# Altium footprint library RLC Footprints.PcbLib: 68 footprints (part 3 of 5)
Each footprint in its own frame and in the unit in brackets; x right, y up, seen from the top. Pads: shape width x height; smd on the part's side, far side on the other; paste and mask are expansions set on the pad; w line width, h text height; cw(c..) or ccw(c..) is an arc to the next point about the centre after c.
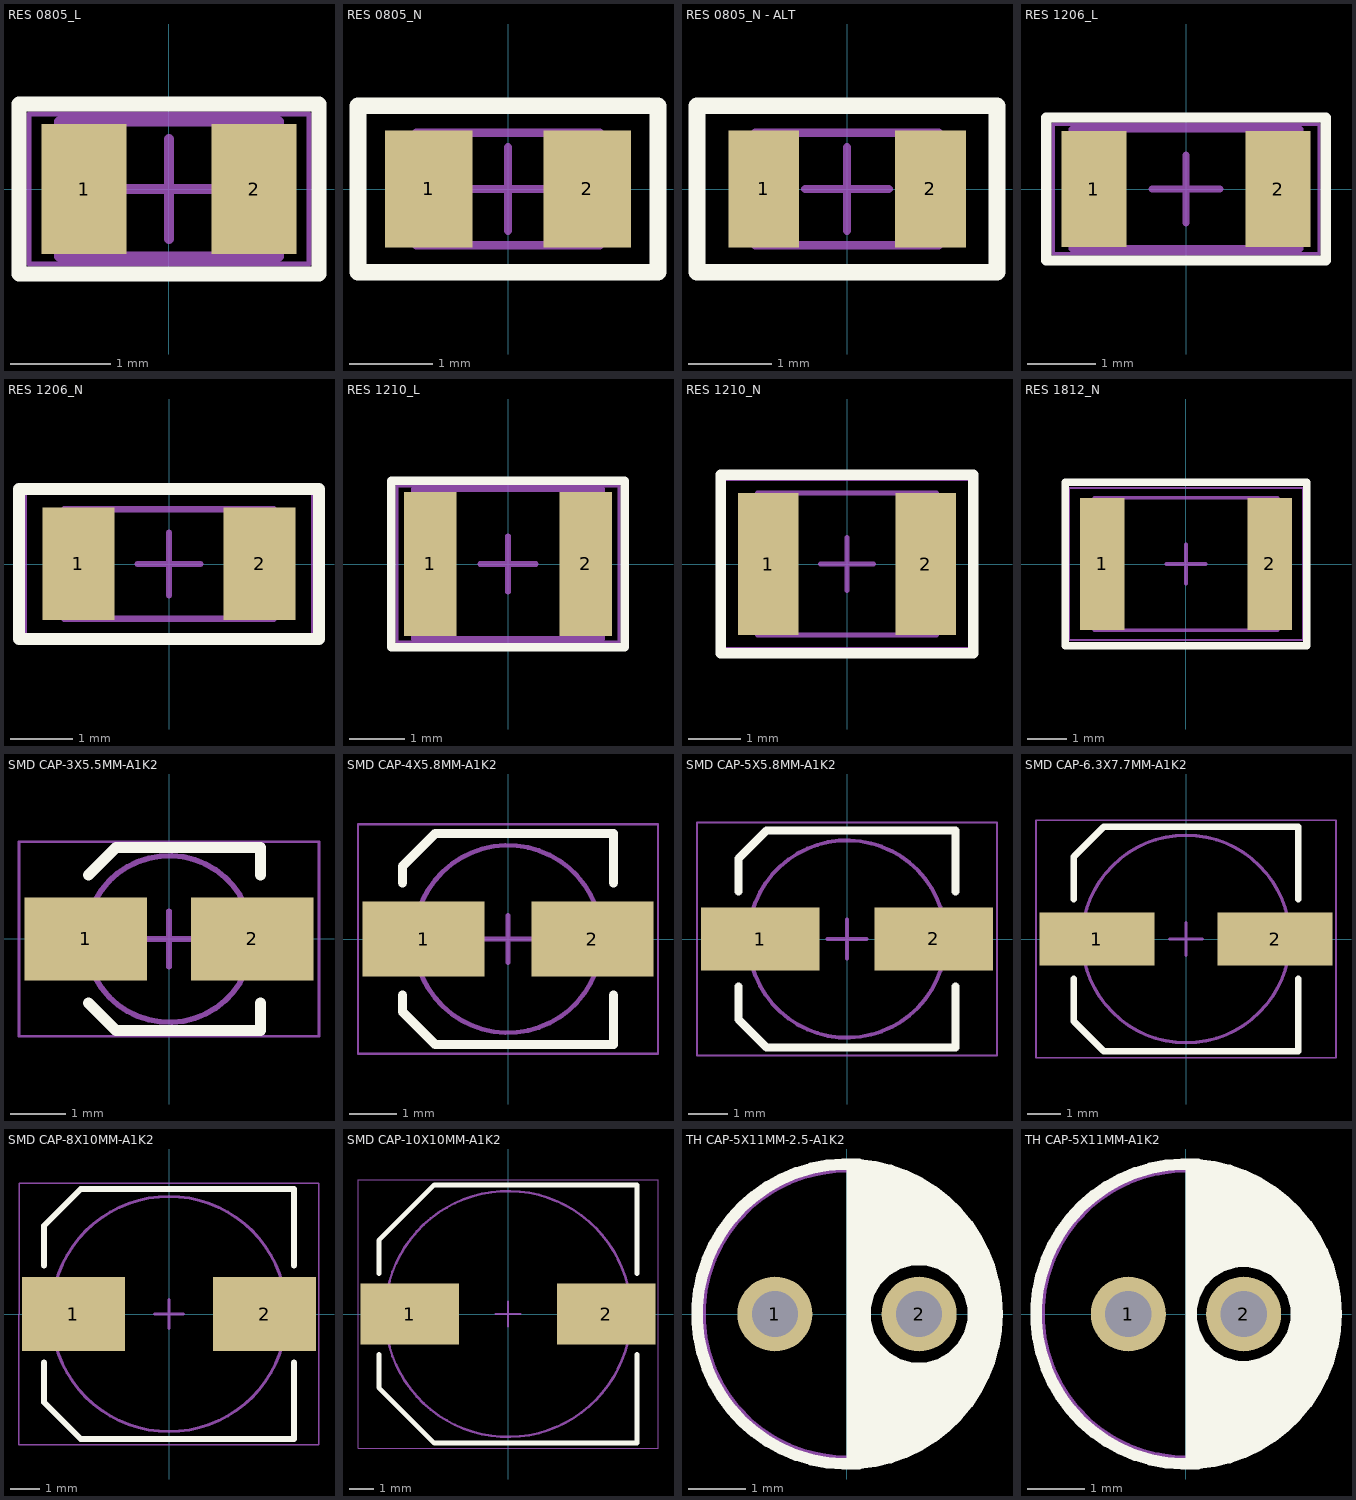
[diagram p2: the footprints below, top view; thin cyan lines are the x and y axes]

## RES 0805_L [mm] "Chip Resistor, Body 2.0x1.3mm, IPC High Density"
height 0.7
pads (2):
  rect 0.85x1.3 smd: 1(-0.85,0) 2(0.85,0)
Top Overlay:
  lines w0.15: -1.5,-0.85 -1.5,0.85 1.1,0.85 1.5,0.85 1.5,-0.85 1.1,-0.85 -1.5,-0.85
Mechanical 13:
  lines w0.1: -1.1,-0.675 1.1,-0.675 1.1,0.675 -1.1,0.675 -1.1,-0.675
Mechanical 15:
  lines w0.05: -1.4,-0.75 1.4,-0.75 1.4,0.75 -1.4,0.75 -1.4,-0.75
  lines w0.1: -0.5,0 0.5,0 ; 0,-0.5 0,0.5
3D body "SMD RESISTOR-0805.step": height 0.62, standoff 0.02, extent -1,-0.625 1,0.625

## RES 0805_N [mm] "Chip Resistor, Body 2.0x1.3mm, IPC Medium Density"
height 0.7
pads (2):
  rect 1.05x1.4 smd: 1(-0.95,0) 2(0.95,0)
Top Overlay:
  lines w0.2: -1.8,-1 -1.8,1 1.1,1 1.8,1 1.8,-1 1.1,-1 -1.8,-1
Mechanical 13:
  lines w0.1: -1.1,-0.675 1.1,-0.675 1.1,0.675 -1.1,0.675 -1.1,-0.675
Mechanical 15:
  lines w0.05: -1.75,-0.95 1.75,-0.95 1.75,0.95 -1.75,0.95 -1.75,-0.95
  lines w0.1: -0.5,0 0.5,0 ; 0,-0.5 0,0.5
3D body "SMD RESISTOR-0805.step": height 0.62, standoff 0.02, extent -1,-0.625 1,0.625

## RES 0805_N - ALT [mm] "Narrower Pad Width, Chip Resistor, Body 2.0x1.3mm, IPC Medium Density"
height 0.7
pads (2):
  rect 0.85x1.4 smd: 1(-1,0) 2(1,0)
Top Overlay:
  lines w0.2: -1.8,-1 -1.8,1 1.1,1 1.8,1 1.8,-1 1.1,-1 -1.8,-1
Mechanical 13:
  lines w0.1: -1.1,-0.675 1.1,-0.675 1.1,0.675 -1.1,0.675 -1.1,-0.675
Mechanical 15:
  lines w0.05: -1.75,-0.95 1.75,-0.95 1.75,0.95 -1.75,0.95 -1.75,-0.95
  lines w0.1: -0.5,0 0.5,0 ; 0,-0.5 0,0.5
3D body "SMD RESISTOR-0805.step": height 0.62, standoff 0.02, extent -1,-0.625 1,0.625

## RES 1206_L [mm] "Chip Resistor, Body 3.2x1.6mm, IPC High Density"
height 0.75
pads (2):
  rect 0.95x1.7 smd: 1(-1.35,0) 2(1.35,0)
Top Overlay:
  lines w0.15: -2.05,-1.05 -2.05,1.05 1.6,1.05 2.05,1.05 2.05,-1.05 1.6,-1.05 -2.05,-1.05
Mechanical 13:
  lines w0.1: -1.675,-0.875 1.675,-0.875 1.675,0.875 -1.675,0.875 -1.675,-0.875
Mechanical 15:
  lines w0.05: -1.95,-0.95 1.95,-0.95 1.95,0.95 -1.95,0.95 -1.95,-0.95
  lines w0.1: -0.5,0 0.5,0 ; 0,-0.5 0,0.5
3D body "SMD RESISTOR-1206.step": height 0.6, standoff 0, extent -1.6,-0.8 1.6,0.8

## RES 1206_N [mm] "Chip Resistor, Body 3.2x1.6mm, IPC Medium Density"
height 0.75
pads (2):
  rect 1.15x1.8 smd: 1(-1.45,0) 2(1.45,0)
Top Overlay:
  lines w0.2: -2.4,-1.2 1.6,-1.2 2.4,-1.2 2.4,1.2 1.6,1.2 -2.4,1.2 -2.4,-1.2
Mechanical 13:
  lines w0.1: -1.675,-0.875 -1.675,0.875 1.675,0.875 1.675,-0.875 -1.675,-0.875
Mechanical 15:
  lines w0.05: -2.3,-1.15 -2.3,1.15 2.3,1.15 2.3,-1.15 -2.3,-1.15
  lines w0.1: -0.5,0 0.5,0 ; 0,-0.5 0,0.5
3D body "SMD RESISTOR-1206.step": height 0.6, standoff 0, extent -1.6,-0.8 1.6,0.8

## RES 1210_L [mm] "Chip Resistor, Body 3.2x2.5mm, IPC High Density"
height 0.71
pads (2):
  rect 0.95x2.6 smd: 1(-1.4,0) 2(1.4,0)
Top Overlay:
  lines w0.15: -2.1,-1.5 1.6,-1.5 2.1,-1.5 2.1,1.5 1.6,1.5 -2.1,1.5 -2.1,-1.5
Mechanical 13:
  lines w0.1: -1.7,-1.35 -1.7,1.35 1.7,1.35 1.7,-1.35 -1.7,-1.35
Mechanical 15:
  lines w0.05: -2,-1.4 -2,1.4 2,1.4 2,-1.4 -2,-1.4
  lines w0.1: -0.5,0 0.5,0 ; 0,-0.5 0,0.5
3D body "SMD RESISTOR-1210.step": height 0.6, standoff 0, extent -1.6,-1.25 1.6,1.25

## RES 1210_N [mm] "Chip Resistor, Body 3.2x2.5mm, IPC Medium Density"
height 0.71
pads (2):
  rect 1.15x2.7 smd: 1(-1.5,0) 2(1.5,0)
Top Overlay:
  lines w0.2: -2.4,-1.7 -2.4,1.7 1.6,1.7 2.4,1.7 2.4,-1.7 1.6,-1.7 -2.4,-1.7
Mechanical 13:
  lines w0.1: -1.7,-1.35 -1.7,1.35 1.7,1.35 1.7,-1.35 -1.7,-1.35
Mechanical 15:
  lines w0.05: -2.35,-1.6 -2.35,1.6 2.35,1.6 2.35,-1.6 -2.35,-1.6
  lines w0.1: -0.5,0 0.5,0 ; 0,-0.5 0,0.5
3D body "SMD RESISTOR-1210.step": height 0.6, standoff 0, extent -1.6,-1.25 1.6,1.25

## RES 1812_N [mm] "Chip Resistor, Body 4.5x3.2mm, IPC Medium Density"
height 0.71
pads (2):
  rect 1.15x3.4 smd: 1(-2.15,0) 2(2.15,0)
Top Overlay:
  lines w0.2: -3.1,-2.1 -3.1,2.1 2,2.1 3.1,2.1 3.1,-2.1 2.1,-2.1 -3.1,-2.1
Mechanical 13:
  lines w0.1: -2.35,-1.7 -2.35,1.7 2.35,1.7 2.35,-1.7 -2.35,-1.7
Mechanical 15:
  lines w0.05: -3,-1.95 -3,1.95 3,1.95 3,-1.95 -3,-1.95
  lines w0.1: -0.5,0 0.5,0 ; 0,-0.5 0,0.5
3D body: height 0.71, standoff 0, extent 1.801,-1.7 2.35,1.7
3D body: height 0.71, standoff 0, extent -1.8,-1.699 1.801,1.7
3D body: height 0.71, standoff 0, extent -2.35,-1.7 -1.8,1.7

## SMD CAP-3X5.5MM-A1K2 [mm] "Aluminum Electrolytic Capacitor, Diameter 3mm, Body 3.3x3.3mm, Height 5.5mm"
height 5.5
pads (2):
  rect 2.2x1.5 smd: 1(-1.5,0) 2(1.5,0)
Top Overlay:
  lines w0.2: -1.45,-1.15 -0.95,-1.65 1.65,-1.65 1.65,-1.15 ; -1.45,1.15 -0.95,1.65 1.65,1.65 1.65,1.15
Mechanical 13:
  lines w0.1: 1.5,0 ccw(c0,0) 1.5,0
Mechanical 15:
  lines w0.05: -2.7,-1.75 2.7,-1.75 2.7,1.75 -2.7,1.75 -2.7,-1.75
  lines w0.1: -0.5,0 0.5,0 ; 0,-0.5 0,0.5
3D body: height 0.5, standoff 0.15, extent -1.65,-1.65 -0.635,-0.635
3D body: height 0.5, standoff 0.15, extent -1.65,0.635 -0.635,1.65
3D body: height 0.8, standoff 0.15, extent 0.483,0.483 1.65,1.651
3D body: height 0.8, standoff 0.15, extent 0.483,-1.651 1.65,-0.483
3D body: height 0.3, standoff 0.15, extent -1.65,-1.65 1.65,1.65
3D body: height 1.4, standoff 0.8, extent -1.29,-1.29 1.29,1.29
3D body: height 5.5, standoff 1.4, extent -1.499,-1.5 1.5,1.499
3D body: height 0.15, standoff 0, extent 0.6,-0.275 2.1,0.275
3D body: height 0.15, standoff 0, extent -2.1,-0.275 -0.6,0.275
3D body: height 0.8, standoff 0.25, extent -1.499,-1.5 1.5,1.499

## SMD CAP-4X5.8MM-A1K2 [mm] "Aluminum Electrolytic Capacitor, Diameter 4mm, Body 4.3x4.3mm, Height 6.1mm, Pitch 3.6mm"
height 6.1
pads (2):
  rect 2.6x1.6 smd: 1(-1.8,0) 2(1.8,0)
Top Overlay:
  lines w0.2: -2.25,-1.2 -2.25,-1.55 -1.55,-2.25 2.25,-2.25 2.25,-1.2 ; -2.25,1.2 -2.25,1.55 -1.55,2.25 2.25,2.25 2.25,1.2
Mechanical 13:
  circle w0.1: c0,0 r2
Mechanical 15:
  lines w0.05: -3.2,-2.45 -3.2,2.45 3.2,2.45 3.2,-2.45 -3.2,-2.45
  lines w0.1: -0.5,0 0.5,0 ; 0,-0.5 0,0.5
3D body "User Library-4x5_4.step": height 5.7, standoff 0, extent -2.65,-2.15 2.65,2.15

## SMD CAP-5X5.8MM-A1K2 [mm] "Aluminum Electrolytic Capacitor, Diameter 5mm, Body 5.3x5.3mm, Height 6.1mm, Pitch 4.4mm"
height 6.1
pads (2):
  rect 3x1.6 smd: 1(-2.2,0) 2(2.2,0)
Top Overlay:
  lines w0.2: -2.75,-1.2 -2.75,-2.04 -2.04,-2.75 2.75,-2.75 2.75,-1.2 ; -2.75,1.2 -2.75,2.04 -2.04,2.75 2.75,2.75 2.75,1.2
Mechanical 13:
  circle w0.1: c0,0 r2.5
Mechanical 15:
  lines w0.05: -3.8,-2.95 -3.8,2.95 3.8,2.95 3.8,-2.95 -3.8,-2.95
  lines w0.1: -0.5,0 0.5,0 ; 0,-0.5 0,0.5
3D body "User Library-5x5_4.step": height 5.7, standoff 0, extent -3.15,-2.65 3.15,2.65

## SMD CAP-6.3X7.7MM-A1K2 [mm] "Aluminum Electrolytic Capacitor, Diameter 6.3mm, Body 6.6x6.6mm, Height 8mm, Pitch 5.4mm"
height 8
pads (2):
  rect 3.5x1.6 smd: 1(-2.7,0) 2(2.7,0)
Top Overlay:
  lines w0.2: -3.4,-1.2 -3.4,-2.5 -2.5,-3.4 3.4,-3.4 3.4,-1.2 ; -3.4,1.2 -3.4,2.5 -2.5,3.4 3.4,3.4 3.4,1.2
Mechanical 13:
  circle w0.1: c0,0 r3.15
Mechanical 15:
  lines w0.05: -4.55,-3.6 4.55,-3.6 4.55,3.6 -4.55,3.6 -4.55,-3.6
  lines w0.1: -0.5,0 0.5,0 ; 0,-0.5 0,0.5
3D body "User Library-6_3x7_7.step": height 8, standoff 0, extent -3.8,-3.3 3.8,3.3

## SMD CAP-8X10MM-A1K2 [mm] "Aluminum Electrolytic Capacitor, Diameter 8mm, Body 8.3x8.3mm, Height 10.8mm, Pitch 6.5mm"
height 10.8
pads (2):
  rect 3.5x2.5 smd: 1(-3.25,0) 2(3.25,0)
Top Overlay:
  lines w0.2: -4.25,-1.65 -4.25,-3 -3,-4.25 4.25,-4.25 4.25,-1.65 ; -4.25,1.65 -4.25,3 -3,4.25 4.25,4.25 4.25,1.65
Mechanical 13:
  circle w0.1: c0,0 r4
Mechanical 15:
  lines w0.05: -5.1,-4.45 -5.1,4.45 5.1,4.45 5.1,-4.45 -5.1,-4.45
  lines w0.1: -0.5,0 0.5,0 ; 0,-0.5 0,0.5
3D body "User Library-AL_EL_cap_8mmx10mm.STEP": height 10.3, standoff -0.2, extent -4.854,-4.2 4.847,4.3

## SMD CAP-10X10MM-A1K2 [mm] "Aluminum Electrolytic Capacitor, Diameter 10mm, Body 10.3x10.3mm, Height 10.8mm, Pitch 8mm"
height 10.8
pads (2):
  rect 4x2.5 smd: 1(-4,0) 2(4,0)
Top Overlay:
  lines w0.2: -5.25,-1.65 -5.25,-3 -3,-5.25 5.25,-5.25 5.25,-1.65 ; -5.25,1.65 -5.25,3 -3,5.25 5.25,5.25 5.25,1.65
Mechanical 13:
  circle w0.1: c0,0 r5
Mechanical 15:
  lines w0.05: -6.1,-5.45 6.1,-5.45 6.1,5.45 -6.1,5.45 -6.1,-5.45
  lines w0.1: -0.5,0 0.5,0 ; 0,-0.5 0,0.5
3D body "User Library-10x10_5.step": height 10.8, standoff 0, extent -5.65,-5.15 5.65,5.15

## TH CAP-5X11MM-2.5-A1K2 [mm] "Aluminum Electrolytic Capacitor, Diameter 5mm, Height 11mm, Pitch 2.5mm"
height 11
pads (2):
  round 1.3 hole 0.8: 1(-1.25,0) 2(1.25,0)
Top Overlay:
  circle w0.2: c0,0 r2.6
  region: 0,-2.6 0.164,-2.6 0.489,-2.559 0.807,-2.477 1.112,-2.356 1.256,-2.277 1.251,-2.268 1.251,-0.849 1.14,-0.841 0.926,-0.784 0.734,-0.674 0.577,-0.517 0.466,-0.325 0.409,-0.111 0.409,0.111 0.466,0.325 0.577,0.517 0.734,0.673 0.926,0.784 1.14,0.841 1.25,0.849 1.25,0.856 1.25,2.271 1.254,2.278 1.111,2.357 0.806,2.477 0.489,2.559 0.164,2.6 0,2.6
  region: 1.25,-0.849 1.36,-0.841 1.574,-0.784 1.766,-0.673 1.923,-0.517 2.034,-0.325 2.091,-0.111 2.091,0.111 2.034,0.325 1.923,0.517 1.766,0.674 1.574,0.784 1.36,0.841 1.249,0.849 1.25,0.856 1.25,2.271 1.254,2.278 1.457,2.166 1.817,1.874 2.12,1.523 2.356,1.124 2.518,0.689 2.6,0.233 2.6,-0.231 2.518,-0.687 2.357,-1.122 2.121,-1.521 1.819,-1.872 1.459,-2.165 1.256,-2.277 1.251,-2.268
Mechanical 13:
  circle w0.1: c0,0 r2.5
3D body "User Library-Capacitor Radial Electrolitic.step": height 11.21, standoff -2.5, extent -2.5,-2.5 2.51,2.5

## TH CAP-5X11MM-A1K2 [mm] "Aluminum Electrolytic Capacitor, Diameter 5mm, Height 11mm, Pitch 2mm"
height 11
pads (2):
  round 1.3 hole 0.8: 1(-1,0) 2(1,0)
Top Overlay:
  circle w0.2: c0,0 r2.6
  region: 0.951,-0.819 1.062,-0.818 1.279,-0.771 1.476,-0.668 1.638,-0.515 1.753,-0.325 1.812,-0.111 1.813,0.111 1.753,0.325 1.638,0.515 1.476,0.668 1.279,0.771 1.062,0.818 0.951,0.819 0.951,2.398 0.958,2.417 1.139,2.345 1.475,2.15 1.778,1.907 2.041,1.622 2.26,1.3 2.428,0.95 2.542,0.579 2.6,0.195 2.6,-0.194 2.542,-0.578 2.428,-0.949 2.26,-1.3 2.042,-1.621 1.778,-1.907 1.475,-2.15 1.14,-2.345 0.959,-2.417 0.951,-2.396
  region: 0,-2.6 0,2.6 0.123,2.6 0.367,2.577 0.608,2.531 0.844,2.462 0.958,2.417 0.951,2.398 0.951,0.819 0.848,0.806 0.652,0.743 0.478,0.633 0.337,0.483 0.238,0.302 0.186,0.103 0.186,-0.103 0.238,-0.302 0.337,-0.483 0.478,-0.633 0.652,-0.743 0.848,-0.806 0.951,-0.819 0.951,-2.396 0.959,-2.417 0.845,-2.462 0.609,-2.531 0.368,-2.577 0.123,-2.6
Mechanical 13:
  circle w0.1: c0,0 r2.5
3D body "User Library-Capacitor Radial Electrolitic.step": height 11.21, standoff -2.5, extent -2.5,-2.5 2.51,2.5